# Altium schematic symbol library myLib_Alberto.SchLib: 17 symbols
Pins are listed as number, name and electrical type; pins without a type are passive.

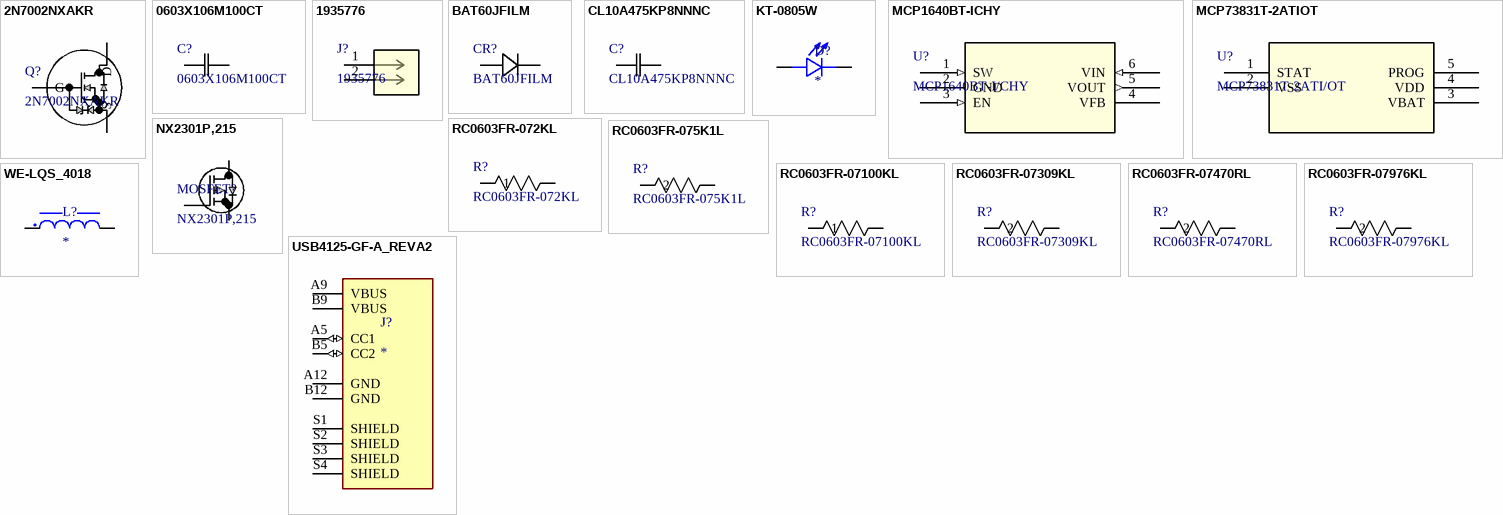
[diagram p0: symbols 2N7002NXAKR to WE-LQS_4018]

## 2N7002NXAKR
designator Q?
N-MOSFET 60VDS 190ID; Manufacturer_Name: Nexperia; Copyright: Copyright (C) 2025 Ultra Librarian. All rights reserved.; Manufacturer_Part_Number: 2N7002NXAKR
footprint TO-236AB_SOT23_NEX
pins: 1 G, 2 S, 3 D

## 0603X106M100CT
designator C?
capacitor 10 uF 0603; Manufacturer_Name: Walsin; Copyright: Copyright (C) 2026 Ultra Librarian. All rights reserved.; Manufacturer_Part_Number: 0603X106M100CT
footprint CAP_0603_X1_WAL
pins: 1, 2

## 1935776
designator J?
PCB terminal block, nominal current: 32 A, rated voltage (III/2): 400 V, nominal cross section: 2.5 mmÂ², number of potentials: 2, number of rows: 1, number of positions per row: 2, product range: PT 2,5/..-H, pitch: 5 mm, connection method: Screw connection with wire protector, screw head form: H1L Philipps recess with slotted Torx, mounting: Wave soldering, conductor/PCB connection direction: 0 Â°, color: green, Pin layout: Linear pinning, Solder pin [P]: 4.1 mm, number of solder pins per potential: 1, type of packaging: packed in cardboard. When using ferrules, 250 V are only achieved in combination with overvoltage category/degree of pollution II/2.; Manufacturer_Name: Phoenix Contact; Copyright: Copyright (C) 2025 Ultra Librarian. All rights reserved.; Manufacturer_Part_Number: 1935776; RefDes: RefDes; Type: Type
footprint CONN_1935776_PXC
pins: 1, 2

## BAT60JFILM
designator CR?
10 V General pupose  Signal Schottky Diode; Manufacturer_Name: STMicroelectronics; Copyright: Copyright (C) 2025 Ultra Librarian. All rights reserved.; Manufacturer_Part_Number: BAT60JFILM
footprint CR_60JFILM_STM
pins: 1, 2

## CL10A475KP8NNNC
designator C?
4.7 uF Capacitor 0603; Manufacturer_Name: Samsung; Copyright: Copyright (C) 2025 Ultra Librarian. All rights reserved.; Manufacturer_Part_Number: CL10A475KP8NNNC
footprint CAP_0603_CL10A_1P6XP8_SAM
pins: 1, 2

## KT-0805W
designator D?
Light Emitting Diodes; MF: Hubei KENTO Elec; MP: KT-0805W; SnapEDA_Link: https://www.snapeda.com/parts/KT-0805W/Hubei+KENTO+Elec/view-part/?ref=snap; Package: Package; Value: *; Check_prices: https://www.snapeda.com/parts/KT-0805W/Hubei+KENTO+Elec/view-part/?ref=eda
footprint LED_KT-0805W
pins: A, C

## MCP1640BT-ICHY
designator U?, comment MCP1640BT-I/CHY
Boost Regulator max input 5.5V output 2 - 5.5V max output 350mA; Manufacturer_Name: Microchip; Copyright: Copyright (C) 2025 Ultra Librarian. All rights reserved.; Manufacturer_Part_Number: MCP1640BT-I/CHY; RefDes: RefDes; Type: Type
footprint SOT-23-6_MC_MCH
pins: 1 SW (in), 2 GND (power), 3 EN (in), 4 VFB, 5 VOUT (out), 6 VIN (in)

## MCP73831T-2ATIOT
designator U?, comment MCP73831T-2ATI/OT
Miniature Single-Cell, Fully Integrated Li-Ion, / Li-Polymer Charge Management Controller; Manufacturer_Name: Microchip; Copyright: Copyright (C) 2026 Ultra Librarian. All rights reserved.; Manufacturer_Part_Number: MCP73831T-2ATI/OT; RefDes: RefDes; Type: Type
footprint SOT-23-5_MC_MCH
footprint SOT-23-5_MC_MCH
pins: 1 STAT, 2 VSS, 3 VBAT, 4 VDD, 5 PROG

## NX2301P,215
designator MOSFET?
MOSFET P-Chanel 400mW; Manufacturer_Name: Nexperia; Copyright: Copyright (C) 2025 Ultra Librarian. All rights reserved.; Manufacturer_Part_Number: NX2301P,215
footprint SOT23_TO-236AB_NEX-L
pins: 1, 2, 3

## RC0603FR-072KL
designator R?
RES SMD 2kO 1% 1/10W 0603; Manufacturer_Name: Yageo; Copyright: Copyright (C) 2025 Ultra Librarian. All rights reserved.; Manufacturer_Part_Number: RC0603FR-072KL
footprint RC0603N_YAG-L
pins: 1, 2

## RC0603FR-075K1L
designator R?
RES 5.1K SMD 0603; Manufacturer_Name: Yageo; Copyright: Copyright (C) 2025 Ultra Librarian. All rights reserved.; Manufacturer_Part_Number: RC0603FR-075K1L
footprint RC0603N_YAG-L
pins: 1, 2

## RC0603FR-07100KL
designator R?
RES, 100 k, 1%, 0.1 W, 0603; Manufacturer_Name: Yageo; Copyright: Copyright (C) 2025 Ultra Librarian. All rights reserved.; Manufacturer_Part_Number: RC0603FR-07100KL
footprint RC0603N_YAG-L - duplicate
pins: 1, 2

## RC0603FR-07309KL
designator R?
resistor 309K 0603; Manufacturer_Name: Yageo; Copyright: Copyright (C) 2025 Ultra Librarian. All rights reserved.; Manufacturer_Part_Number: RC0603FR-07309KL
footprint RC0603N_YAG
pins: 1, 2

## RC0603FR-07470RL
designator R?
RESISTOR; 0603; 470 OHM; 1%; 100PPM; 0.1W; THICK FILM; Manufacturer_Name: Yageo; Copyright: Copyright (C) 2026 Ultra Librarian. All rights reserved.; Manufacturer_Part_Number: RC0603FR-07470RL
footprint RC0603N_YAG-L
pins: 1, 2

## RC0603FR-07976KL
designator R?
resistor 976K 0603; Manufacturer_Name: Yageo; Copyright: Copyright (C) 2026 Ultra Librarian. All rights reserved.; Manufacturer_Part_Number: RC0603FR-07976KL
footprint RC0603N_YAG
pins: 1, 2

## USB4125-GF-A_REVA2
designator J?
USB C female connector; MP: USB4125-GF-A_REVA2; Package: None; Availability: Unavailable; Value: *; Price: None
footprint GCT_USB4125-GF-A_REVA2
pins: A5 CC1 (io), A9 VBUS (power), A12 GND (power), B5 CC2 (io), B9 VBUS (power), B12 GND (power), S1 SHIELD, S2 SHIELD, S3 SHIELD, S4 SHIELD

## WE-LQS_4018
designator L?
INDICATEUR FIXE 4,7 UH 1,7 A 70 MOHM CMS; MF: WÃ¼rth Elektronik; MP: 74404042047; SnapEDA_Link: https://www.snapeda.com/parts/74404042047/W%25C3%25BCrth+Elektronik+Midcom/view-part/?ref=snap; Package: Nonstandard WÃ¼rth Elektronik; Value: *; Check_prices: https://www.snapeda.com/parts/74404042047/W%25C3%25BCrth+Elektronik+Midcom/view-part/?ref=eda
footprint WE-LQS_4018
pins: 1 2, 2 1